# EAGLE library part MAX7219CWG (library DECADE)
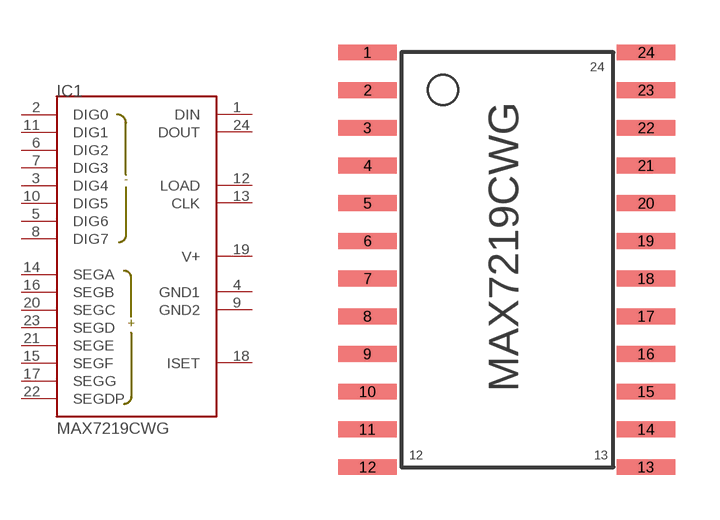
[diagram p0: symbol with the pads of SOIC24(W); footprint SOIC24(W)]

Designator prefix -

## MAX7219CWG  [SOIC24(W)]
1  DIN
2  DIG0
3  DIG4
4  GND1
5  DIG6
6  DIG2
7  DIG3
8  DIG7
9  GND2
10  DIG5
11  DIG1
12  LOAD
13  CLK
14  SEGA
15  SEGF
16  SEGB
17  SEGG
18  ISET
19  V+
20  SEGC
21  SEGE
22  SEGDP
23  SEGD
24  DOUT

## Footprint SOIC24(W) (pad centres in mm)
smd 1.981 x 0.533: 1 -5.08,7.62; 2 -5.08,6.35; 3 -5.08,5.08; 4 -5.08,3.81; 5 -5.08,2.54; 6 -5.08,1.27; 7 -5.08,0; 8 -5.08,-1.27; 9 -5.08,-2.54; 10 -5.08,-3.81; 11 -5.08,-5.08; 12 -5.08,-6.35; 13 4.293,-6.35; 14 4.293,-5.08; 15 4.293,-3.81; 16 4.293,-2.54; 17 4.293,-1.27; 18 4.293,0; 19 4.293,1.27; 20 4.293,2.54; 21 4.293,3.81; 22 4.293,5.08; 23 4.293,6.35; 24 4.293,7.62